# EAGLE library part AT91SAM7S64_SQ_H (library atmel_prototype_header)
Atmel AT91 ARM Thumb-based Microcontroller. LQFP64 package.
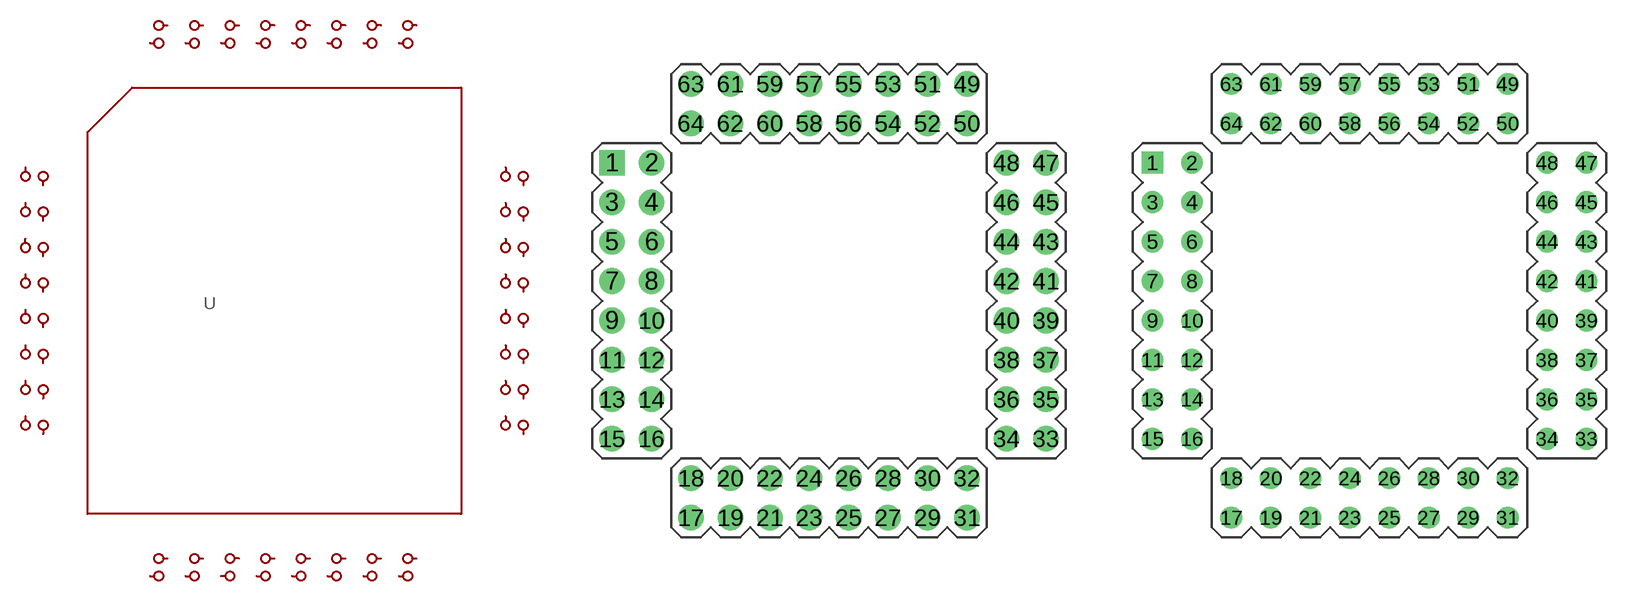
[diagram p14: symbol with the pads of HEADER_DUALSQR64_43; footprints HEADER_DUALSQR64_43, HEADER_DUALSQR64_35]

Designator prefix U

## AT91SAM7S64_SQ_H_DUAL64_43  [HEADER_DUALSQR64_43]
1  ADVREF  pas
2  GND  pas
3  AD4  pas
4  AD5  pas
5  AD6  pas
6  AD7  pas
7  VDDIN  pas
8  VDDOUT  pas
9  PA17_AD0  pas
10  PA18_AD1  pas
11  PA21  pas
12  VDDCORE  pas
13  PA19_AD2  pas
14  PA22  pas
15  PA23  pas
16  PA20_AD3  pas
17  GND  pas
18  VDDIO  pas
19  PA16_USB_PU  pas
20  PA15  pas
21  PA14  pas
22  PA13  pas
23  PA24  pas
24  VDDCORE  pas
25  PA25  pas
26  PA26  pas
27  PA12  pas
28  PA11  pas
29  PA10_DTXD  pas
30  PA9_DRXD  pas
31  PA8  pas
32  PA7  pas
33  TDI  pas
34  PA6  pas
35  PA5  pas
36  PA4  pas
37  PA27  pas
38  PA28  pas
39  NRST  pas
40  TST  pas
41  PA29  pas
42  PA30  pas
43  PA3  pas
44  PA2  pas
45  VDDIO  pas
46  GND  pas
47  PA1  pas
48  PA0  pas
49  TDO  pas
50  JTAGSEL  pas
51  TMS  pas
52  PA31  pas
53  TCK  pas
54  VDDCORE  pas
55  ERASE  pas
56  DDM  pas
57  DDP  pas
58  VDDIO  pas
59  VDDFLASH  pas
60  GND  pas
61  XOUT  pas
62  XIN  pas
63  PLLRC  pas
64  VDDPLL  pas

## AT91SAM7S64_SQ_H_DUAL64_35  [HEADER_DUALSQR64_35]
Pads as for HEADER_DUALSQR64_43

## AT91SAM7S64_SQ_H_PLCC64_43  [HEADER_PLCC64_43]
Pads as for HEADER_DUALSQR64_43

## AT91SAM7S64_SQ_H_PLCC64_35  [HEADER_PLCC64_35]
Pads as for HEADER_DUALSQR64_43

## Footprint HEADER_DUALSQR64_43 (pad centres in mm)
drill 1.1 square: 1 -13.97,8.89
drill 1.1: 2 -11.43,8.89; 3 -13.97,6.35; 4 -11.43,6.35; 5 -13.97,3.81; 6 -11.43,3.81; 7 -13.97,1.27; 8 -11.43,1.27; 9 -13.97,-1.27; 10 -11.43,-1.27; 11 -13.97,-3.81; 12 -11.43,-3.81; 13 -13.97,-6.35; 14 -11.43,-6.35; 15 -13.97,-8.89; 16 -11.43,-8.89; 17 -8.89,-13.97; 18 -8.89,-11.43; 19 -6.35,-13.97; 20 -6.35,-11.43; 21 -3.81,-13.97; 22 -3.81,-11.43; 23 -1.27,-13.97; 24 -1.27,-11.43; 25 1.27,-13.97; 26 1.27,-11.43; 27 3.81,-13.97; 28 3.81,-11.43; 29 6.35,-13.97; 30 6.35,-11.43; 31 8.89,-13.97; 32 8.89,-11.43; 33 13.97,-8.89; 34 11.43,-8.89; 35 13.97,-6.35; 36 11.43,-6.35; 37 13.97,-3.81; 38 11.43,-3.81; 39 13.97,-1.27; 40 11.43,-1.27; 41 13.97,1.27; 42 11.43,1.27; 43 13.97,3.81; 44 11.43,3.81; 45 13.97,6.35; 46 11.43,6.35; 47 13.97,8.89; 48 11.43,8.89; 49 8.89,13.97; 50 8.89,11.43; 51 6.35,13.97; 52 6.35,11.43; 53 3.81,13.97; 54 3.81,11.43; 55 1.27,13.97; 56 1.27,11.43; 57 -1.27,13.97; 58 -1.27,11.43; 59 -3.81,13.97; 60 -3.81,11.43; 61 -6.35,13.97; 62 -6.35,11.43; 63 -8.89,13.97; 64 -8.89,11.43

## Footprint HEADER_DUALSQR64_35 (pad centres in mm)
drill 0.9 square: 1 -13.97,8.89
drill 0.9: 2 -11.43,8.89; 3 -13.97,6.35; 4 -11.43,6.35; 5 -13.97,3.81; 6 -11.43,3.81; 7 -13.97,1.27; 8 -11.43,1.27; 9 -13.97,-1.27; 10 -11.43,-1.27; 11 -13.97,-3.81; 12 -11.43,-3.81; 13 -13.97,-6.35; 14 -11.43,-6.35; 15 -13.97,-8.89; 16 -11.43,-8.89; 17 -8.89,-13.97; 18 -8.89,-11.43; 19 -6.35,-13.97; 20 -6.35,-11.43; 21 -3.81,-13.97; 22 -3.81,-11.43; 23 -1.27,-13.97; 24 -1.27,-11.43; 25 1.27,-13.97; 26 1.27,-11.43; 27 3.81,-13.97; 28 3.81,-11.43; 29 6.35,-13.97; 30 6.35,-11.43; 31 8.89,-13.97; 32 8.89,-11.43; 33 13.97,-8.89; 34 11.43,-8.89; 35 13.97,-6.35; 36 11.43,-6.35; 37 13.97,-3.81; 38 11.43,-3.81; 39 13.97,-1.27; 40 11.43,-1.27; 41 13.97,1.27; 42 11.43,1.27; 43 13.97,3.81; 44 11.43,3.81; 45 13.97,6.35; 46 11.43,6.35; 47 13.97,8.89; 48 11.43,8.89; 49 8.89,13.97; 50 8.89,11.43; 51 6.35,13.97; 52 6.35,11.43; 53 3.81,13.97; 54 3.81,11.43; 55 1.27,13.97; 56 1.27,11.43; 57 -1.27,13.97; 58 -1.27,11.43; 59 -3.81,13.97; 60 -3.81,11.43; 61 -6.35,13.97; 62 -6.35,11.43; 63 -8.89,13.97; 64 -8.89,11.43

## Footprint HEADER_PLCC64_43 (pad centres in mm)
drill 1.1 square: 1 -12.7,7.62
drill 1.1: 2 -10.16,7.62; 3 -12.7,5.08; 4 -10.16,5.08; 5 -12.7,2.54; 6 -10.16,2.54; 7 -12.7,0; 8 -10.16,0; 9 -12.7,-2.54; 10 -10.16,-2.54; 11 -12.7,-5.08; 12 -10.16,-5.08; 13 -12.7,-7.62; 14 -10.16,-7.62; 15 -12.7,-10.16; 16 -10.16,-10.16; 17 -7.62,-12.7; 18 -7.62,-10.16; 19 -5.08,-12.7; 20 -5.08,-10.16; 21 -2.54,-12.7; 22 -2.54,-10.16; 23 0,-12.7; 24 0,-10.16; 25 2.54,-12.7; 26 2.54,-10.16; 27 5.08,-12.7; 28 5.08,-10.16; 29 7.62,-12.7; 30 7.62,-10.16; 31 10.16,-12.7; 32 10.16,-10.16; 33 12.7,-7.62; 34 10.16,-7.62; 35 12.7,-5.08; 36 10.16,-5.08; 37 12.7,-2.54; 38 10.16,-2.54; 39 12.7,0; 40 10.16,0; 41 12.7,2.54; 42 10.16,2.54; 43 12.7,5.08; 44 10.16,5.08; 45 12.7,7.62; 46 10.16,7.62; 47 12.7,10.16; 48 10.16,10.16; 49 7.62,12.7; 50 7.62,10.16; 51 5.08,12.7; 52 5.08,10.16; 53 2.54,12.7; 54 2.54,10.16; 55 0,12.7; 56 0,10.16; 57 -2.54,12.7; 58 -2.54,10.16; 59 -5.08,12.7; 60 -5.08,10.16; 61 -7.62,12.7; 62 -7.62,10.16; 63 -10.16,12.7; 64 -10.16,10.16
hole 1.1 at -12.7,10.16
hole 1.1 at 10.16,12.7
hole 1.1 at 12.7,-10.16
hole 1.1 at -10.16,-12.7

## Footprint HEADER_PLCC64_35 (pad centres in mm)
drill 0.9 square: 1 -12.7,7.62
drill 0.9: 2 -10.16,7.62; 3 -12.7,5.08; 4 -10.16,5.08; 5 -12.7,2.54; 6 -10.16,2.54; 7 -12.7,0; 8 -10.16,0; 9 -12.7,-2.54; 10 -10.16,-2.54; 11 -12.7,-5.08; 12 -10.16,-5.08; 13 -12.7,-7.62; 14 -10.16,-7.62; 15 -12.7,-10.16; 16 -10.16,-10.16; 17 -7.62,-12.7; 18 -7.62,-10.16; 19 -5.08,-12.7; 20 -5.08,-10.16; 21 -2.54,-12.7; 22 -2.54,-10.16; 23 0,-12.7; 24 0,-10.16; 25 2.54,-12.7; 26 2.54,-10.16; 27 5.08,-12.7; 28 5.08,-10.16; 29 7.62,-12.7; 30 7.62,-10.16; 31 10.16,-12.7; 32 10.16,-10.16; 33 12.7,-7.62; 34 10.16,-7.62; 35 12.7,-5.08; 36 10.16,-5.08; 37 12.7,-2.54; 38 10.16,-2.54; 39 12.7,0; 40 10.16,0; 41 12.7,2.54; 42 10.16,2.54; 43 12.7,5.08; 44 10.16,5.08; 45 12.7,7.62; 46 10.16,7.62; 47 12.7,10.16; 48 10.16,10.16; 49 7.62,12.7; 50 7.62,10.16; 51 5.08,12.7; 52 5.08,10.16; 53 2.54,12.7; 54 2.54,10.16; 55 0,12.7; 56 0,10.16; 57 -2.54,12.7; 58 -2.54,10.16; 59 -5.08,12.7; 60 -5.08,10.16; 61 -7.62,12.7; 62 -7.62,10.16; 63 -10.16,12.7; 64 -10.16,10.16
hole 0.9 at -12.7,10.16
hole 0.9 at 10.16,12.7
hole 0.9 at 12.7,-10.16
hole 0.9 at -10.16,-12.7